# Altium footprint library 50uF_800V_N9.PcbLib: 1 footprints
Each footprint in its own frame and in the unit in brackets; x right, y up, seen from the top. Pads: shape width x height; smd on the part's side, far side on the other; paste and mask are expansions set on the pad; w line width, h text height; cw(c..) or ccw(c..) is an arc to the next point about the centre after c.
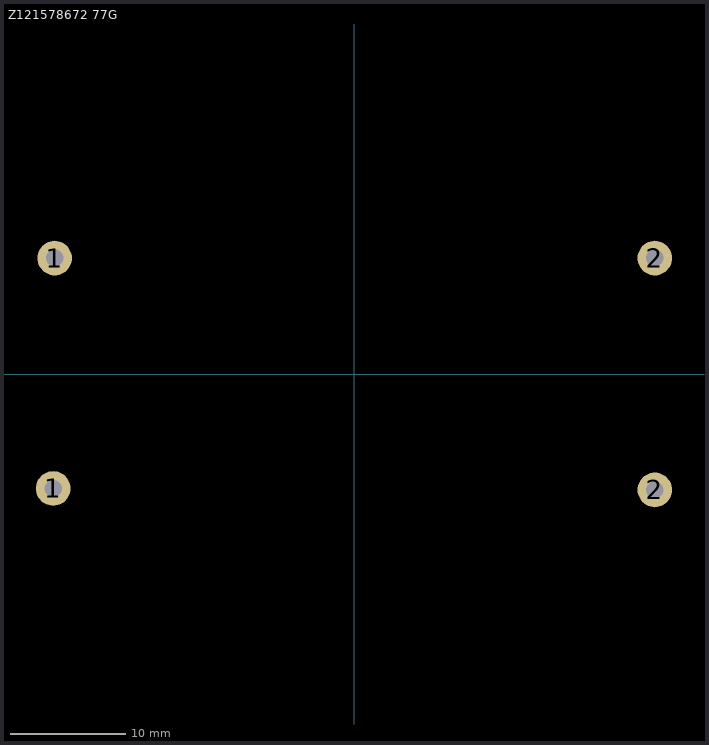
[diagram p0: the footprint, top view; thin cyan lines are the x and y axes]

## Z121578672 77G [mm] "Z121578672 77G"
pads (4):
  round 3 hole 1.5: 1(-26.035,-9.906) 1(-25.908,10.033) 2(26.035,-10.033) 2(26.035,10.033)
3D body "50uF 800v.STEP": height 47.01, standoff -3, extent -28.5,-14.5 28.5,14.5